# Altium schematic symbol library INFINITY.Waveguide.SchLib: 13 symbols
Pins are listed as number, name and electrical type; pins without a type are passive.

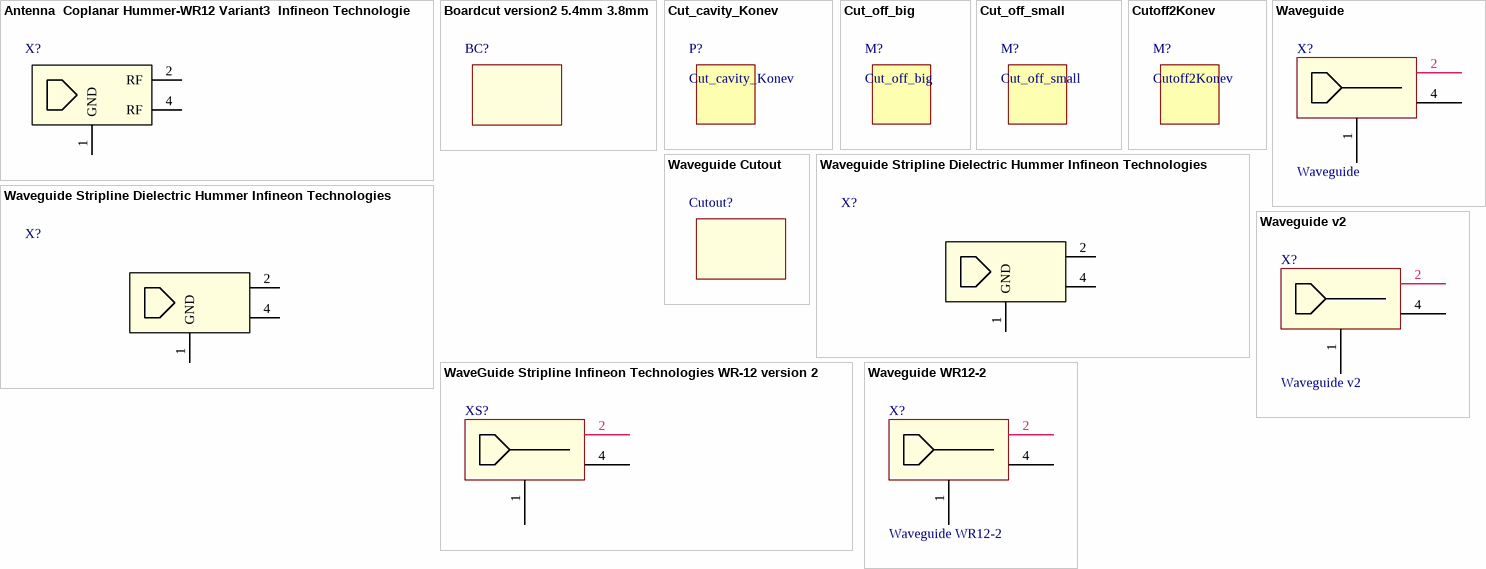
[diagram p0: symbols Antenna  Coplanar Hummer-WR12 Variant3  Infineon Technologies to Waveguide WR12-2]

## Antenna  Coplanar Hummer-WR12 Variant3  Infineon Technologies
designator X?  (value not drawn)
pins: 1 GND, 2 RF, 4 RF

## Boardcut version2 5.4mm 3.8mm
designator BC?  (value not drawn)

## Cut_cavity_Konev
designator P?
footprint Cut_cavity_Konev

## Cut_off_big
designator M?
footprint Cut_off_big

## Cut_off_small
designator M?
footprint Cut_off_small

## Cutoff2Konev
designator M?
footprint Cutoff2Konev

## Waveguide
designator X?
footprint Wavrguide to BGA
pins: 1, 2, 4

## Waveguide Cutout
designator Cutout?  (value not drawn)
footprint Waveguide Cutout

## Waveguide Stripline Dielectric Hummer Infineon Technologies WR-12 version1
designator X?
уменьшенные пады
pins: 1 GND, 2, 4

## Waveguide Stripline Dielectric Hummer Infineon Technologies WR-12 version2
designator X?
pins: 1 GND, 2, 4

## WaveGuide Stripline Infineon Technologies WR-12 version 2
designator XS?
pins: 1, 2, 4

## Waveguide v2
designator X?
уменьшенные пады
footprint Wavrguide to BGA version2
pins: 1, 2, 4

## Waveguide WR12-2
designator X?
footprint Waveguide WR12-2
pins: 1, 2, 4